# Altium footprint library FlybackKutuphane.PcbLib: 22 footprints (part 2 of 2)
Each footprint in its own frame and in the unit in brackets; x right, y up, seen from the top. Pads: shape width x height; smd on the part's side, far side on the other; paste and mask are expansions set on the pad; w line width, h text height; cw(c..) or ccw(c..) is an arc to the next point about the centre after c.
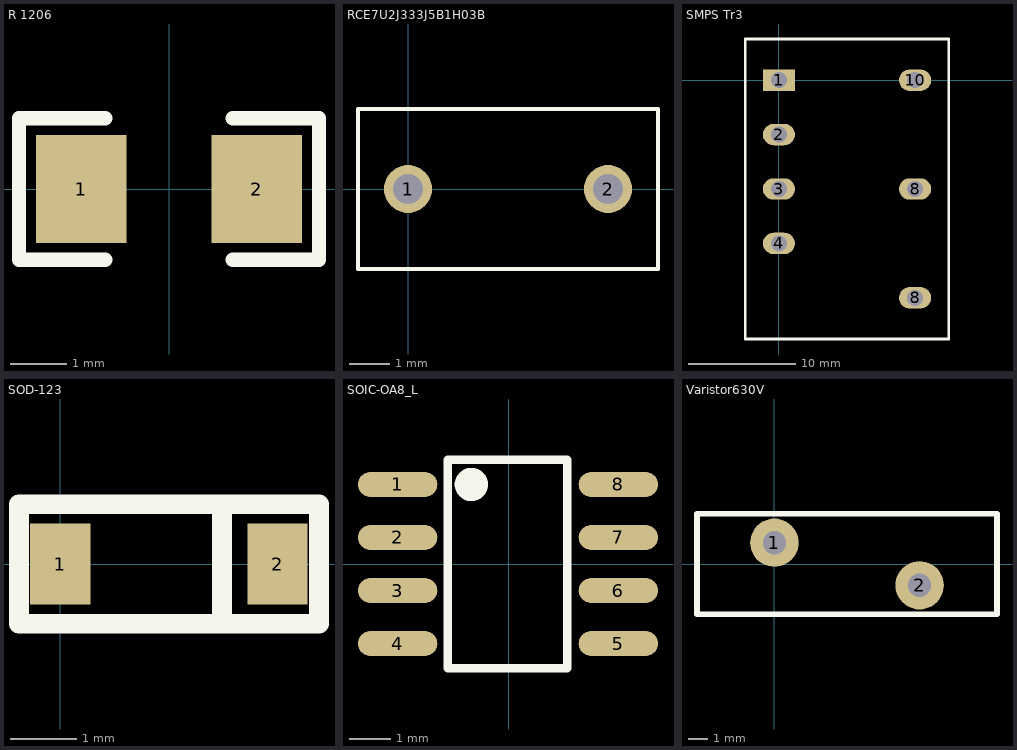
[diagram p1: the footprints below, top view; thin cyan lines are the x and y axes]

## R 1206 [mm]
pads (2):
  rect 1.6x1.9 smd: 1(-1.55,0) 2(1.55,0)
Top Overlay:
  lines w0.25: -1.127,-1.25 -2.65,-1.25 -2.65,0 -2.65,1.25 -1.127,1.25 ; 1.127,-1.25 2.65,-1.25 2.65,1.25 1.127,1.25
3D body "Resistor_SMD_0,25W_1206.stp": height 0.85, standoff 0, extent -1.6,-0.8 1.6,0.8

## RCE7U2J333J5B1H03B [mm]
pads (2):
  round 1.2 hole 0.75: 1(0,0) 2(5,0)
Top Overlay:
  lines w0.1: -1.25,-2 6.25,-2 6.25,2 -1.25,2 -1.25,-2
3D body "RDER73A104K5B1H03B.stp": height 9.75, standoff -19.25, extent -1.286,-1.993 6.214,2.007

## SMPS Tr3 [mm] "SMPS Tr3"
pads (7):
  rect 3x2 hole 1.5: 1(0,0)
  oval 3x2 hole 1.5: 2(0,-5.08) 3(0,-10.16) 4(0,-15.24) 8(12.7,-20.32) 8(12.7,-10.16) 10(12.7,0)
Top Overlay:
  lines w0.25: -3.15,-24.16 -3.15,3.84 ; 15.85,-24.16 15.85,3.84
  lines w0.254: -3.15,-24.16 15.85,-24.16 ; -3.15,3.84 15.85,3.84
  text "." at 3.922,-0.373 h10
3D body "User Library-Trafo EE25.step": height 32.35, standoff -3.5, extent -2.675,-22.733 15.325,2.667

## SOD-123 [mm] "SOD-123"
pads (2):
  rect 0.91x1.22 smd: 1(0,0) 2(3.275,0)
Top Overlay:
  lines w0.3: 2.438,-0.787 2.438,0.787 ; -0.62,-0.9 3.9,-0.9 3.9,0.9 -0.62,0.9 -0.62,-0.9
3D body "SOD123.STEP": height 1.42, standoff -0.03, extent -0.301,-0.85 3.549,0.85

## SOIC-OA8_L [mm] "SOIC, 8-Leads, Body 4.9x3.9mm, Pitch 1.27mm, IPC High Density"
height 1.75
pads (8):
  oval 1.9x0.6 smd: 1(-2.655,1.905) 2(-2.655,0.635) 3(-2.655,-0.635) 4(-2.655,-1.905) 5(2.629,-1.905) 6(2.629,-0.635) 7(2.629,0.635) 8(2.629,1.905)
Top Overlay:
  circle w0.4: c-0.889,1.905 r0.2
  lines w0.2: -1.457,-2.5 -1.457,2.5 1.406,2.5 1.406,-2.5 -1.457,-2.5
3D body "SO8.step": height 1.75, standoff 0, extent -2.994,-2.445 3.006,2.455

## Varistor630V [mm]
pads (2):
  round 2.5 hole 1.2: 1(0,1.1) 2(7.5,-1.1)
Top Overlay:
  lines w0.254: 11.5,-2.6 11.5,2.6
  lines w0.3: -4,-2.6 11.5,-2.6 11.5,2.6 -4,2.6 -4,-2.6
3D body "User Library-Varistor 10mm.STEP": height 16.25, standoff -2.75, extent -2.6,-2.9 9.9,2.7